# EAGLE library part L3GD20H (library IMU_chips)
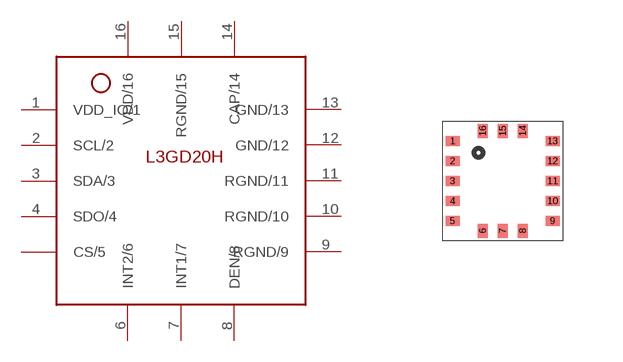
[diagram p1: symbol with the pads of LGA-16; footprint LGA-16]

Designator prefix -

## L3GD20H  [LGA-16]
1  VDD_IO/1
2  SCL/2
3  SDA/3
4  SDO/4
5  CS/5
6  INT2/6
7  INT1/7
8  DEN/8
9  RGND/9
10  RGND/10
11  RGND/11
12  GND/12
13  GND/13
14  CAP/14
15  RGND/15
16  VDD/16

## Footprint LGA-16 (pad centres in mm)
smd 0.35 x 0.25: 1 -1.25,1; 2 -1.25,0.5; 3 -1.25,0; 4 -1.25,-0.5; 5 -1.25,-1; 9 1.25,-1; 10 1.25,-0.5; 11 1.25,0; 12 1.25,0.5; 13 1.25,1
smd 0.25 x 0.35: 6 -0.5,-1.25; 7 0,-1.25; 8 0.5,-1.25; 14 0.5,1.25; 15 0,1.25; 16 -0.5,1.25